# EAGLE library part PRTR5V0U2D (library NXP)
Ultra low capacitance double rail-to-rail ESD Protection
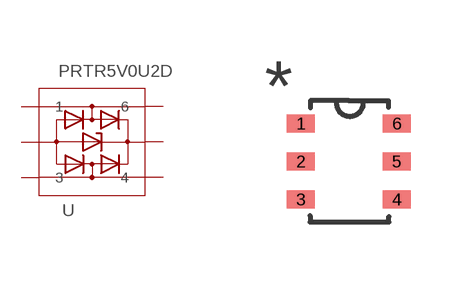
[diagram p2: symbol with the pads of SOT-457; footprint SOT-457]

Designator prefix -

## PRTR5V0U2D  [SOT-457]
1  1  pas
2  2  pas
3  3  pas
4  4  pas
5  5  pas
6  6  pas

## Footprint SOT-457 (pad centres in mm)
SOT-457 Reflow
smd 0.7 x 0.45: 1 -1.2,0.95; 2 -1.2,0; 3 -1.2,-0.95; 4 1.2,-0.95; 5 1.2,0; 6 1.2,0.95